# Altium footprint library device.PcbLib: 49 footprints (part 2 of 4)
Each footprint in its own frame and in the unit in brackets; x right, y up, seen from the top. Pads: shape width x height; smd on the part's side, far side on the other; paste and mask are expansions set on the pad; w line width, h text height; cw(c..) or ccw(c..) is an arc to the next point about the centre after c.
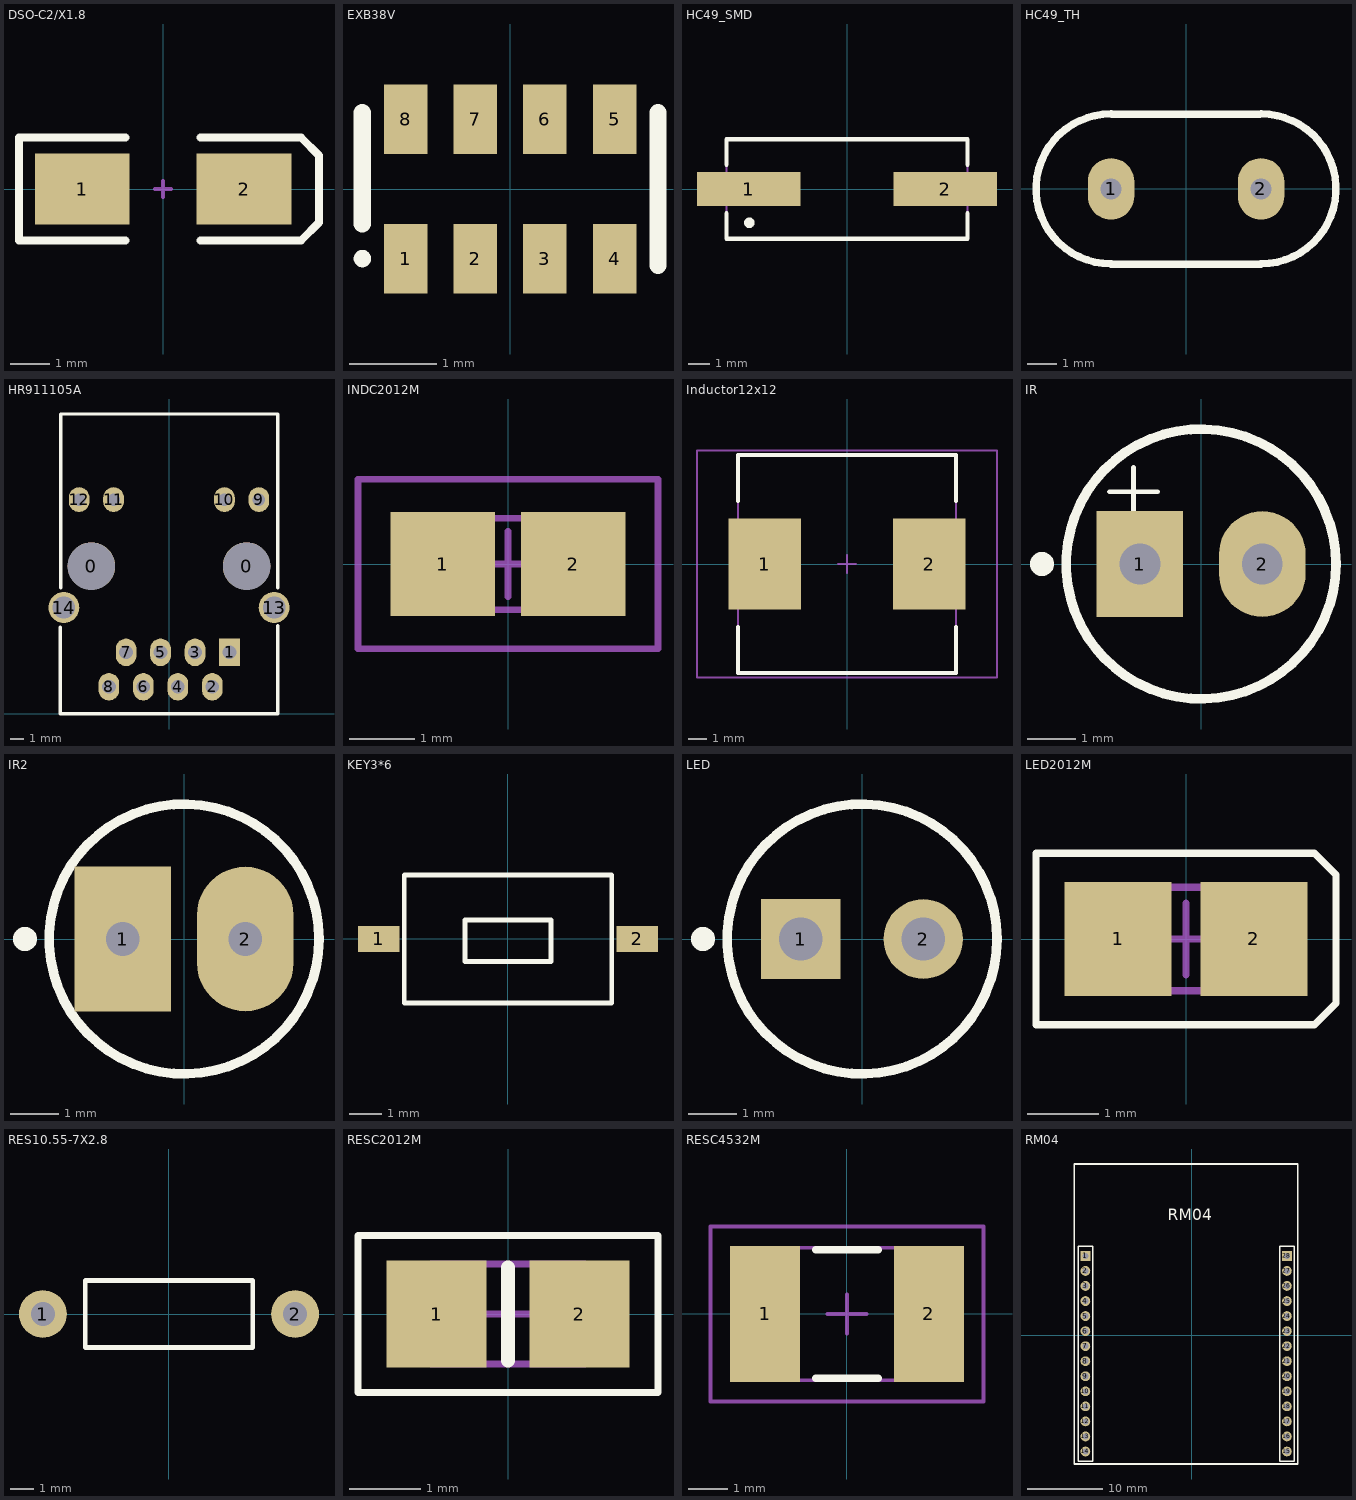
[diagram p1: the footprints below, top view; thin cyan lines are the x and y axes]

## DSO-C2/X1.8 [mm] "DO-214-AC/SMA; 2 C-Bend Leads; Body 5 x 2.7 mm, inc. leads (LxW)"
height 2.44
pads (2):
  rect 2.4x1.8 smd: 1(-2.05,0) 2(2.05,0)
Top Overlay:
  lines w0.2: -0.95,-1.3 -3.65,-1.3 -3.65,1.3 -0.95,1.3 ; 0.95,-1.3 3.5,-1.3 3.95,-0.85 3.95,0.85 3.5,1.3 0.95,1.3
Mechanical 1:
  lines w0.1: -0.2,0 0.2,0 ; 0,-0.2 0,0.2

## EXB38V [mm] "Chip Resistor Array, (0603x4); SM; 8 Leads; Body 3.40 x 1.75 mm (LxW max)"
height 0.6
pads (8):
  rect 0.5x0.8 smd: 1(-1.2,-0.8) 2(-0.4,-0.8) 3(0.4,-0.8) 4(1.2,-0.8) 5(1.2,0.8) 6(0.4,0.8) 7(-0.4,0.8) 8(-1.2,0.8)
Top Overlay:
  circle w0.1: c-1.7,-0.8 r0.05
  lines w0.2: -1.7,-0.4 -1.7,0.875 ; 1.7,-0.875 1.7,0.875

## HC49_SMD [mm]
pads (2):
  rect 4.9x1.6 smd: 1(-4.65,0) 2(4.65,0)
Mid-Layer 3:
  lines w0.001: -5.75,-2.4 -5.75,2.4 5.75,2.4 5.75,-2.4 -5.75,-2.4
Top Overlay:
  circle w0.25: c-4.623,-1.6 r0.125
  lines w0.2: -5.7,-1.15 -5.7,-2.35 5.7,-2.35 5.7,-1.15 ; -5.7,1.15 -5.7,2.35 5.7,2.35 5.7,1.15
Mechanical 15:
  lines w0.1: -5.7,-2.35 -5.7,2.35 5.7,2.35 5.7,-2.35 -5.7,-2.35

## HC49_TH [mil]
pads (2):
  oval 62x82 hole 28: 1(-100,0) 2(100,0)
Top Overlay:
  lines w10: -100,-100.39 99.8,-100.39 ; -100,-100 cw(c-100,0) -100,100 ; -99.02,99.41 98.62,99.37 ; 100,-100 ccw(c100,0) 100,100

## HR911105A [mil]
pads (16):
  round 137.8 hole 137.8 unplated: 0(-225,428.74) 0(225,428.74)
  rect 60x80 hole 40: 1(175.59,178.74)
  oval 60x80 hole 40: 2(125.59,78.74) 3(75.59,178.74) 4(25.59,78.74) 5(-24.41,178.74) 6(-74.41,78.74) 7(-124.41,178.74) 8(-174.41,78.74)
  oval 60x72 hole 36: 9(260.83,621.65) 10(160.83,621.65) 11(-160.83,621.65) 12(-260.83,621.65)
  round 90 hole 65: 13(305.12,308.66) 14(-305.12,308.66)
Top Overlay:
  lines w10: -314.96,251.97 -314.96,-0.24 -314.57,0.16 315.28,0.16 315.35,0.24 ; -314.57,366.14 -314.57,870.08 315.35,870.08 315.35,366.14 ; 315.35,255.91 315.35,0.24 ; 315.59,0 315.35,0.24

## INDC2012M [mm] "Chip Inductor, Body 2.0x1.2mm, IPC Low Density"
height 1.1
pads (2):
  rect 1.6x1.6 smd: 1(-1,0) 2(1,0)
Mechanical 13:
  lines w0.1: -1.1,-0.7 -1.1,0.7 1.1,0.7 1.1,-0.7 -1.1,-0.7
Mechanical 15:
  lines w0.1: -0.5,0 0.5,0 ; 0,-0.5 0,0.5 ; -2.3,-1.3 -2.3,1.3 2.3,1.3 2.3,-1.3 -2.3,-1.3
3D body: height 1.1, standoff 0, extent -1.1,-0.7 1.1,0.7

## Inductor12x12 [mm]
pads (2):
  rect 4x5 smd: 1(-4.521,0) 2(4.521,0)
Top Overlay:
  lines w0.2: -6,-3.45 -6,-6 6,-6 6,-3.45 ; -6,3.45 -6,6 6,6 6,3.45
Mechanical 13:
  lines w0.1: -6,-6 -6,6 6,6 6,-6 -6,-6
Mechanical 15:
  lines w0.1: -0.5,0 0.5,0 ; 0,-0.5 0,0.5 ; -8.255,-6.25 -8.255,6.25 8.255,6.25 8.255,-6.25 -8.255,-6.25
3D body: height 8, standoff 0, extent -6,-6 6,6

## IR [mm]
height 8.9
pads (2):
  rect 1.8x2.2 hole 0.85: 1(-1.27,0)
  oval 1.8x2.2 hole 0.85: 2(1.27,0)
Top Overlay:
  circle w0.25: c-3.3,0 r0.125
  circle w0.2: c0,0 r2.8
  lines w0.1: -1.9,1.5 -0.9,1.5 ; -1.4,1 -1.4,2

## IR2 [mm]
height 8.9
pads (2):
  rect 2x3 hole 0.7: 1(-1.27,0)
  oval 2x3 hole 0.7: 2(1.27,0)
Top Overlay:
  circle w0.25: c-3.3,0 r0.125
  circle w0.2: c0,0 r2.8

## KEY3*6 [mm]
pads (2):
  rect 1.3x0.8 smd: 1(-4.05,0) 2(4.05,0)
Top Overlay:
  lines w0.152: -3.25,-2 -3.25,2 3.25,2 3.25,-2 -3.25,-2 ; -1.35,-0.7 1.35,-0.7 1.35,0.6 -1.35,0.6 -1.35,-0.7

## LED [mm]
height 8.9
pads (2):
  rect 1.65x1.65 hole 0.9: 1(-1.27,0)
  round 1.65 hole 0.9: 2(1.27,0)
Top Overlay:
  circle w0.2: c0,0 r2.8
  circle w0.25: c-3.3,0 r0.125

## LED2012M [mm] "Chip LED, Body 2.0x1.3mm, IPC Low Density"
height 1.1
pads (2):
  rect 1.5x1.6 smd: 1(-0.95,0) 2(0.95,0)
Top Overlay:
  lines w0.1: -2.1,-1.2 1.8,-1.2 2.1,-0.9 2.1,0.9 1.8,1.2 -2.1,1.2 -2.1,-1.2
Mechanical 13:
  lines w0.1: -1.1,-0.725 -1.1,0.725 1.1,0.725 1.1,-0.725 -1.1,-0.725
Mechanical 15:
  lines w0.1: -0.5,0 0.5,0 ; 0,-0.5 0,0.5
3D body: height 1.1, standoff 0, extent -1.1,-0.725 1.1,0.725

## RES10.55-7X2.8 [mm] "Resistor, Axial; Body 7 x 2.8 mm (LxDia. max), Lead Dia. 0.65 mm (max)"
height 2.8
pads (2):
  round 2 hole 1: 1(-5.275,0) 2(5.275,0)
Top Overlay:
  lines w0.2: -3.5,-1.4 3.5,-1.4 3.5,1.4 -3.5,1.4 -3.5,-1.4

## RESC2012M [mm] "Chip Resistor, Body 2.0x1.3mm, IPC Low Density"
height 0.65
pads (2):
  rect 1.4x1.5 smd: 1(-1,0) 2(1,0)
Top Overlay:
  lines w0.1: -2.1,-1.1 -2.1,1.1 2.1,1.1 2.1,-1.1 -2.1,-1.1
  lines w0.2: 0,-0.65 0,0.65
Mechanical 13:
  lines w0.1: -1.075,-0.7 -1.075,0.7 1.075,0.7 1.075,-0.7 -1.075,-0.7
Mechanical 15:
  lines w0.1: -0.5,0 0.5,0 ; 0,-0.5 0,0.5
3D body: height 0.65, standoff 0, extent -1.075,-0.7 1.075,0.7

## RESC4532M [mm] "Chip Resistor, Body 4.5x3.2mm, IPC Low Density"
height 0.71
pads (2):
  rect 1.8x3.5 smd: 1(-2.1,0) 2(2.1,0)
Top Overlay:
  lines w0.2: -0.8,-1.65 0.8,-1.65 ; -0.8,1.65 0.8,1.65
Mechanical 13:
  lines w0.1: -2.4,-1.7 2.4,-1.7 2.4,1.7 -2.4,1.7 -2.4,-1.7
Mechanical 15:
  lines w0.1: -0.5,0 0.5,0 ; 0,-0.5 0,0.5 ; -3.5,-2.25 3.5,-2.25 3.5,2.25 -3.5,2.25 -3.5,-2.25
3D body: height 0.71, standoff 0, extent -2.4,-1.7 2.4,1.7

## RM04 [mm]
pads (28):
  rect 1.3x1.3 hole 0.8: 1(-14.135,10.519) 28(12.646,10.519)
  round 1.3 hole 0.8: 2(-14.135,8.519) 3(-14.135,6.519) 4(-14.135,4.519) 5(-14.135,2.519) 6(-14.135,0.519) 7(-14.135,-1.481) 8(-14.135,-3.481) 9(-14.135,-5.481) 10(-14.135,-7.481) 11(-14.135,-9.481) 12(-14.135,-11.481) 13(-14.135,-13.481) 14(-14.135,-15.481) 15(12.646,-15.481) 16(12.646,-13.481) 17(12.646,-11.481) 18(12.646,-9.481) 19(12.646,-7.481) 20(12.646,-5.481) 21(12.646,-3.481) 22(12.646,-1.481) 23(12.646,0.519) 24(12.646,2.519) 25(12.646,4.519) 26(12.646,6.519) 27(12.646,8.519)
Top Overlay:
  lines w0.2: -15.081,-16.781 -15.081,11.789 -13.181,11.789 -13.181,-16.781 -15.081,-16.781 ; 11.7,-16.781 11.7,11.789 13.6,11.789 13.6,-16.781 11.7,-16.781
  lines w0.254: -15.621,-17.145 -15.621,22.733 14.097,22.733 14.097,-17.145 -15.621,-17.145
  text "RM04" at -3.175,15.24 h1.52